# EAGLE library part 69131140008 (library Terminal_Blocks_Connectors_rev15e)
WR-TBL Serie 3114 - 7.62 mm Open Vertical PCB Header , 8 Pins
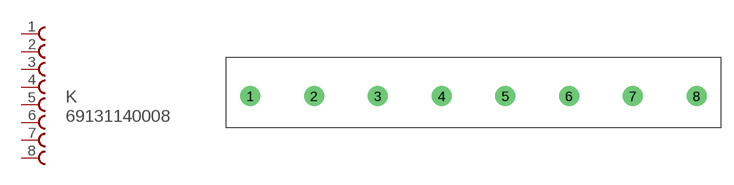
[diagram p184: symbol with the pads of 691311400008; footprint 691311400008]

Designator prefix K

## 69131140008  [691311400008]
1  1  pas
2  2  pas
3  3  pas
4  4  pas
5  5  pas
6  6  pas
7  7  pas
8  8  pas

## Footprint 691311400008 (pad centres in mm)
WR-TBL Terminal block - serie 3114 7,62mm - PCB Vertical Opened - 08p;
drill 1.6: 1 -26.67,0; 2 -19.05,0; 3 -11.43,0; 4 -3.81,0; 5 3.81,0; 6 11.43,0; 7 19.05,0; 8 26.67,0